# Altium footprint library SO16.PcbLib: 1 footprints
Each footprint in its own frame and in the unit in brackets; x right, y up, seen from the top. Pads: shape width x height; smd on the part's side, far side on the other; paste and mask are expansions set on the pad; w line width, h text height; cw(c..) or ccw(c..) is an arc to the next point about the centre after c.
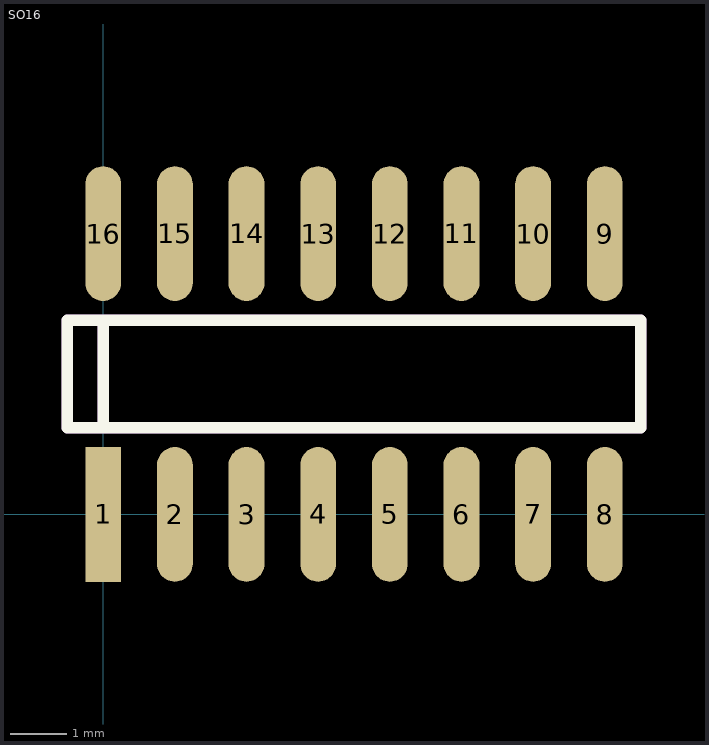
[diagram p0: the footprint, top view; thin cyan lines are the x and y axes]

## SO16 [mil]
height 3
pads (16):
  rect 25x94 smd: 1(0,0)
  oval 25x94 smd: 2(50,0) 3(100,0) 4(150,0) 5(200,0) 6(250,0) 7(300,0) 8(350,0) 9(350,196) 10(300,196) 11(250,196) 12(200,196) 13(150,196) 14(100,196) 15(50,196) 16(0,196)
Top Overlay:
  lines w8: 0,60.5 0,135.5 ; -25,60.5 -25,135.5 375,135.5 375,60.5 -25,60.5
Mechanical 1:
  lines w8: 0,60.5 0,135.5 ; -25,60.5 -25,135.5 375,135.5 375,60.5 -25,60.5
3D body: height 69.88, standoff 0.46, extent -21.25,-20.8 371.26,220.81